# Altium footprint library header-connector.PcbLib: 26 footprints (part 2 of 2)
Each footprint in its own frame and in the unit in brackets; x right, y up, seen from the top. Pads: shape width x height; smd on the part's side, far side on the other; paste and mask are expansions set on the pad; w line width, h text height; cw(c..) or ccw(c..) is an arc to the next point about the centre after c.
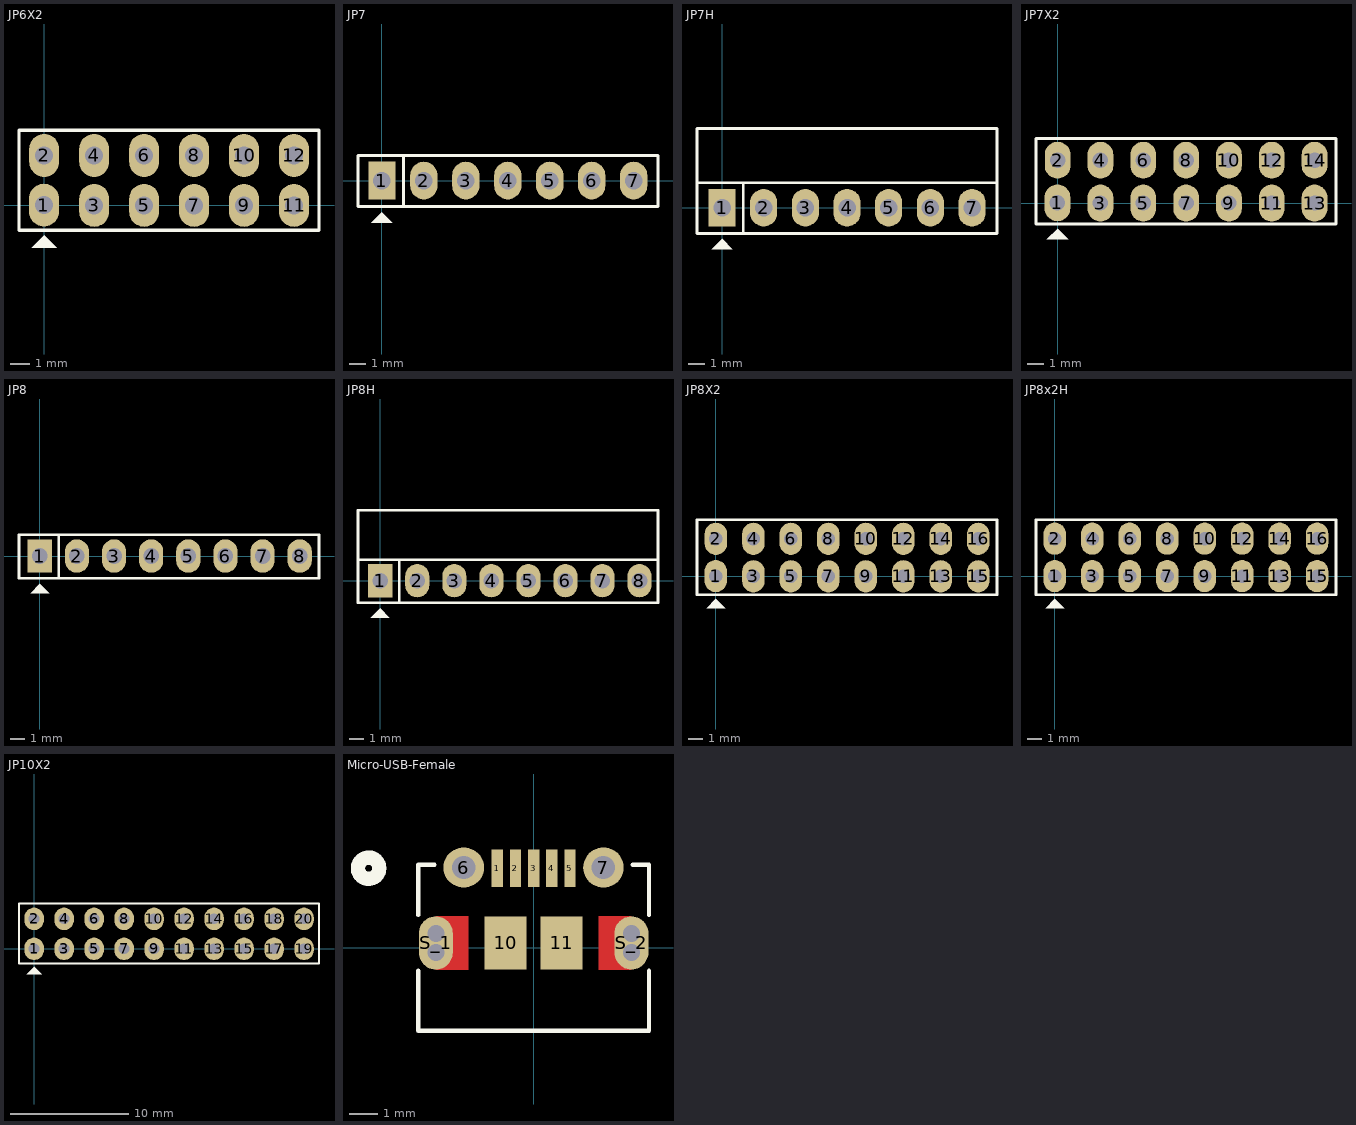
[diagram p1: the footprints below, top view; thin cyan lines are the x and y axes]

## JP6X2 [mil]
pads (12):
  oval 60x86 hole 36: 1(-0.5,0.5) 2(0,100) 3(100,0) 4(100,100) 5(200,0) 6(200,100) 7(300,0) 8(300,100) 9(400,0) 10(400,100) 11(500,0) 12(500,100)
Top Overlay:
  region: 0,-60 -25,-85 25,-85
  lines w7: -50.5,-49.5 -50.5,50.5 -50.5,150.5 550,150.5 550,-49.5 -50.5,-49.5
3D body "JP6X2.stp": height 335.24, standoff -117.51, extent -49.99,-49.99 550.01,150.01

## JP7 [mil] "JP7"
height 200
pads (7):
  rect 65x90 hole 42: 1(0,0)
  oval 65x90 hole 42: 2(100,0) 3(200,0) 4(300,0) 5(400,0) 6(500,0) 7(600,0)
Top Overlay:
  region: 0,-75 -25,-100 25,-100
  lines w7: 51,-58 51,60 ; -57,-62 -57,60 658,60 658,-62 -57,-62
3D body "JP1-7.stp": height 323.44, standoff -117.51, extent -50,-49.21 646.06,49.21

## JP7H [mil]
pads (7):
  rect 65x90 hole 42: 1(0,0)
  oval 65x90 hole 42: 2(100,0) 3(200,0) 4(300,0) 5(400,0) 6(500,0) 7(600,0)
Top Overlay:
  region: 0,-75 -25,-100 25,-100
  lines w7: -57,60 660,60 ; -50,60 -60,60 ; 51,-58 51,60 ; -60,60 -60,-62 660,-62 660,60 ; -60,60 -60,190 660,190 660,60
3D body "JP7H.stp": height 99.03, standoff -93.89, extent -46.06,-24.96 646.07,413.63

## JP7X2 [mil]
pads (14):
  oval 60x86 hole 36: 1(-0.5,0.5) 2(0,100) 3(100,0) 4(100,100) 5(200,0) 6(200,100) 7(300,0) 8(300,100) 9(400,0) 10(400,100) 11(500,0) 12(500,100) 13(600,0) 14(600,100)
Top Overlay:
  region: 0,-60 -25,-85 25,-85
  lines w7: -50.5,-49.5 650,-49.5 650,150.5 -50.5,150.5 -50.5,50.5 -50.5,-49.5
3D body "JP7X2.stp": height 335.25, standoff -117.51, extent -49.99,-49.99 650.01,150.01

## JP8 [mil] "JP8"
height 200
pads (8):
  rect 65x90 hole 42: 1(0,0)
  oval 65x90 hole 42: 2(100,0) 3(200,0) 4(300,0) 5(400,0) 6(500,0) 7(600,0) 8(700,0)
Top Overlay:
  region: 0,-75 -25,-100 25,-100
  lines w7: 51,-60 51,56 ; -56,-60 752,-60 752,57 -56,57 -56,-60
3D body "JP1-8.stp": height 323.43, standoff -117.51, extent -48.03,-50 748.03,48.43

## JP8H [mil]
pads (8):
  rect 65x90 hole 42: 1(0,0)
  oval 65x90 hole 42: 2(100,0) 3(200,0) 4(300,0) 5(400,0) 6(500,0) 7(600,0) 8(700,0)
Top Overlay:
  region: 0,-75 -25,-100 25,-100
  lines w7: 51,-60 51,56 ; -60,57 -60,190 750,190 750,57 ; -60,57 750,57 ; -60,57 -60,-60 750,-60 750,57
3D body "JP8H.stp": height 49.21, standoff -143.7, extent -46.06,-14.96 746.06,423.62

## JP8X2 [mil]
pads (16):
  oval 60x86 hole 36: 1(-0.5,0.5) 2(0,100) 3(100,0) 4(100,100) 5(200,0) 6(200,100) 7(300,0) 8(300,100) 9(400,0) 10(400,100) 11(500,0) 12(500,100) 13(600,0) 14(600,100) 15(700,0) 16(700,100)
Top Overlay:
  region: 0,-60 -25,-85 25,-85
  lines w7: -50.5,-49.5 750,-49.5 750,150.5 -50.5,150.5 -50.5,50.5 -50.5,-49.5
3D body "JP8X2.stp": height 335.25, standoff -117.51, extent -49.99,-49.99 750.01,150.01

## JP8x2H [mil]
pads (16):
  oval 60x86 hole 36: 1(0,0) 2(0,100) 3(100,0) 4(100,100) 5(200,0) 6(200,100) 7(300,0) 8(300,100) 9(400,0) 10(400,100) 11(500,0) 12(500,100) 13(600,0) 14(600,100) 15(700,0) 16(700,100)
Top Overlay:
  region: 0.5,-60.5 -24.5,-85.5 25.5,-85.5
  lines w7: -50,-50 750.5,-50 750.5,150 -50,150 -50,50 -50,-50
3D body "pin_header_awl254-da-g16d.stp": height 197.45, standoff -117.51, extent -50,-13.44 750,493.65

## JP10X2 [mil]
pads (20):
  oval 65x75 hole 36: 1(0,0) 2(0,100) 3(100,0) 4(100,100) 5(200,0) 6(200,100) 7(300,0) 8(300,100) 9(400,0) 10(400,100) 11(500,0) 12(500,100) 13(600,0) 14(600,100) 15(700,0) 16(700,100) 17(800,0) 18(800,100) 19(900,0) 20(900,100)
Top Overlay:
  region: 0,-60 -25,-85 25,-85
  lines w7: -50.5,-49.5 -50.5,50.5 -50.5,150.5 950,150.5 950,-49.5 -50.5,-49.5
3D body "User Library-Pin Header 2X10.STEP": height 314.3, standoff -118.77, extent -50,-50 950,150

## Micro-USB-Female [mil]
pads (15):
  rect 16x53 smd: 1(-51.18,112) 2(-25.59,112) 3(0,112) 4(25.59,112) 5(51.18,112)
  round 57 hole 33: 6(-98.43,112.98) 7(98.43,112.98)
  rect 59x75 smd: 10(-39.37,6.68) 11(39.37,6.68)
  oval 48x75 smd mask+0: S_1(-137.8,6.68) S_2(137.8,6.68)
  round 24 hole 24: S_1_H1(-137.8,20.18) S_1_H2(-137.8,-6.82) S_2_H1(137.8,20.18) S_2_H2(137.8,-6.82)
Top Layer:
  region: -91.8,-30.82 -91.8,44.19 -137.8,44.19 -137.8,-30.82
  region: 91.8,-30.82 91.8,44.19 137.8,44.19 137.8,-30.82
Top Overlay:
  circle w20: c-232.5,112 r15
  lines w6: -162.5,-32.59 -162.5,-117 162.5,-117 162.5,-32.59 ; -162.5,45.96 -162.5,117 -139.83,117 ; 139.83,117 162.5,117 162.5,45.96
Bottom Overlay:
  circle w20: c-232.5,112 r15
Top Paste:
  region: 91.8,-30.82 91.8,44.19 137.8,44.19 137.8,-30.82
  region: -91.8,-30.82 -91.8,44.19 -137.8,44.19 -137.8,-30.82
Top Solder:
  region: 91.8,-30.82 91.8,44.19 137.8,44.19 137.8,-30.82
  region: -91.8,-30.82 -91.8,44.19 -137.8,44.19 -137.8,-30.82
Multi-Layer:
  lines w24: -137.8,-6.82 -137.8,20.18 ; 137.8,-6.82 137.8,20.18
3D body: height 10, standoff 0, extent 0,0 10,10
3D body "1050170001.stp": height 108.07, standoff -21.85, extent -161.42,-95 161.42,117.6